# Altium schematic symbol library OPA4277.SchLib: 1 symbol
Pins are listed as number, name and electrical type; pins without a type are passive.

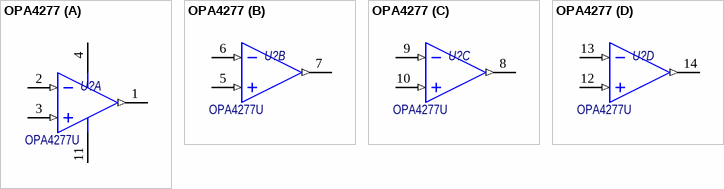
[diagram p0: symbol OPA4277]

## OPA4277
designator U?, comment OPA4277U
OPA4277 High Precision 4-channels Operational Amplifiers; Назначение: OPA4277 High Precision Operational Amplifiers; Потребление, Вт: 0.01; ComponentLink1Description: DataSheet; ComponentLink1URL: https://www.ti.com/lit/ds/symlink/opa2277.pdf?ts=1651172104371; Наименование: OPA4277U
footprint SOIC-14
part A pins: 1 OUT A (out), 2 -IN A (in), 3 +IN A (in), 4 +V (power), 11 -V (power)
part B pins: 5 +IN B (in), 6 -IN B (in), 7 OUT B (out)
part C pins: 8 OUT C (out), 9 -IN C (in), 10 +IN C (in)
part D pins: 12 +IN D (in), 13 -IN D (in), 14 OUT D (out)